# Altium schematic symbol library motor.SchLib: 2 symbols
Pins are listed as number, name and electrical type; pins without a type are passive.

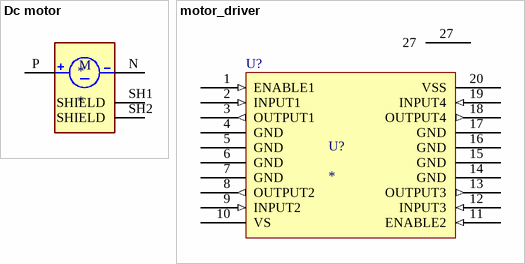
[diagram p0: symbols Dc motor to motor_driver]

## Dc motor
designator *
SMD HD MOTOR 3VDC 15000RPM,DC Motor Vibration, ERM 15000 RPM 2.7VDC; Manufacturer Product Number: HD-EMB1104-SM-3; Manufacturer: PUI Audio, Inc.; supplier: DigiKey; DigiKey Part Number: 668-HD-EMB1104-SM-3TR-ND
footprint Dc motor (SMD HD MOTOR 3VDC 15000RPM,DC Motor Vibration, ERM 15000 RPM 2.7VDC)
pins: N NEG, P POS, SH1 SHIELD, SH2 SHIELD
text: M

## motor_driver
designator U?
IC MTR DRV BIPOLR 4.5-36V 20SOIC, Bipolar Motor Driver Parallel 20-SO; Manufacturer Product Number: L293DD; Manufacturer: STMicroelectronics; DigiKey Part Number: 497-1390-5-ND; supplier: DigiKey
footprint motor_driver (IC MTR DRV BIPOLR 4.5-36V 20SOIC, Bipolar Motor Driver Parallel 20-SO)
pins: 1 ENABLE1 (in), 2 INPUT1 (in), 3 OUTPUT1 (out), 4 GND (power), 5 GND (power), 6 GND (power), 7 GND (power), 8 OUTPUT2 (out), 9 INPUT2 (in), 10 VS (power), 11 ENABLE2 (in), 12 INPUT3 (in), 13 OUTPUT3 (out), 14 GND (power), 15 GND (power), 16 GND (power), 17 GND (power), 18 OUTPUT4 (out), 19 INPUT4 (in), 20 VSS (power), 27